# EAGLE library part ZFKKDS_1,5-5,05_36 (library phoenix_contact_ZFKKDS_1,5-5,08)
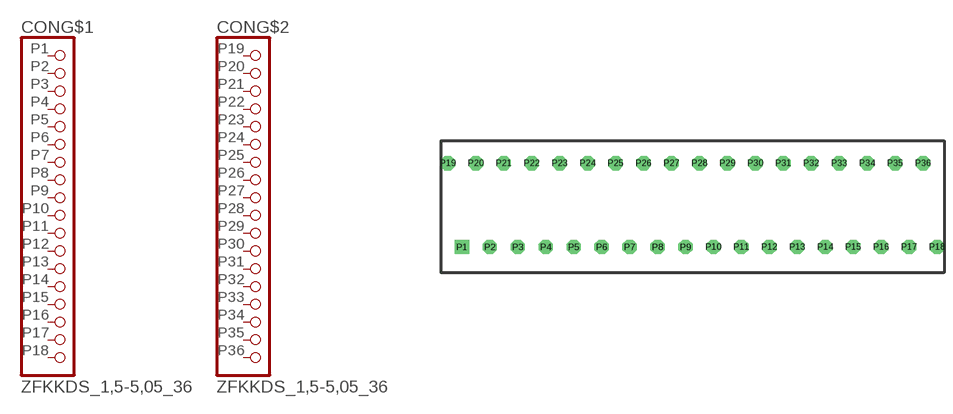
[diagram p0: symbol with the pads of ZFKKDS_1,5-5,05_36; footprint ZFKKDS_1,5-5,05_36]

Designator prefix CON; gates G$1=PINHD18 G$2=PINHD18

## ZFKKDS_1,5-5,05_36  [ZFKKDS_1,5-5,05_36]
P1  G$1:1  pas
P2  G$1:2  pas
P3  G$1:3  pas
P4  G$1:4  pas
P5  G$1:5  pas
P6  G$1:6  pas
P7  G$1:7  pas
P8  G$1:8  pas
P9  G$1:9  pas
P10  G$1:10  pas
P11  G$1:11  pas
P12  G$1:12  pas
P13  G$1:13  pas
P14  G$1:14  pas
P15  G$1:15  pas
P16  G$1:16  pas
P17  G$1:17  pas
P18  G$1:18  pas
P19  G$2:1  pas
P20  G$2:2  pas
P21  G$2:3  pas
P22  G$2:4  pas
P23  G$2:5  pas
P24  G$2:6  pas
P25  G$2:7  pas
P26  G$2:8  pas
P27  G$2:9  pas
P28  G$2:10  pas
P29  G$2:11  pas
P30  G$2:12  pas
P31  G$2:13  pas
P32  G$2:14  pas
P33  G$2:15  pas
P34  G$2:16  pas
P35  G$2:17  pas
P36  G$2:18  pas

## Footprint ZFKKDS_1,5-5,05_36 (pad centres in mm)
drill 1.3 pad 2.6 square: P1 0,0
drill 1.3 pad 2.6 octagon: P2 5.08,0; P3 10.16,0; P4 15.24,0; P5 20.32,0; P6 25.4,0; P7 30.48,0; P8 35.56,0; P9 40.64,0; P10 45.72,0; P11 50.8,0; P12 55.88,0; P13 60.96,0; P14 66.04,0; P15 71.12,0; P16 76.2,0; P17 81.28,0; P18 86.36,0; P19 -2.54,15.24; P20 2.54,15.24; P21 7.62,15.24; P22 12.7,15.24; P23 17.78,15.24; P24 22.86,15.24; P25 27.94,15.24; P26 33.02,15.24; P27 38.1,15.24; P28 43.18,15.24; P29 48.26,15.24; P30 53.34,15.24; P31 58.42,15.24; P32 63.5,15.24; P33 68.58,15.24; P34 73.66,15.24; P35 78.74,15.24; P36 83.82,15.24